# Altium footprint library Sangjian_Pcb.PcbLib: 434 footprints (part 25 of 28)
Each footprint in its own frame and in the unit in brackets; x right, y up, seen from the top. Pads: shape width x height; smd on the part's side, far side on the other; paste and mask are expansions set on the pad; w line width, h text height; cw(c..) or ccw(c..) is an arc to the next point about the centre after c.
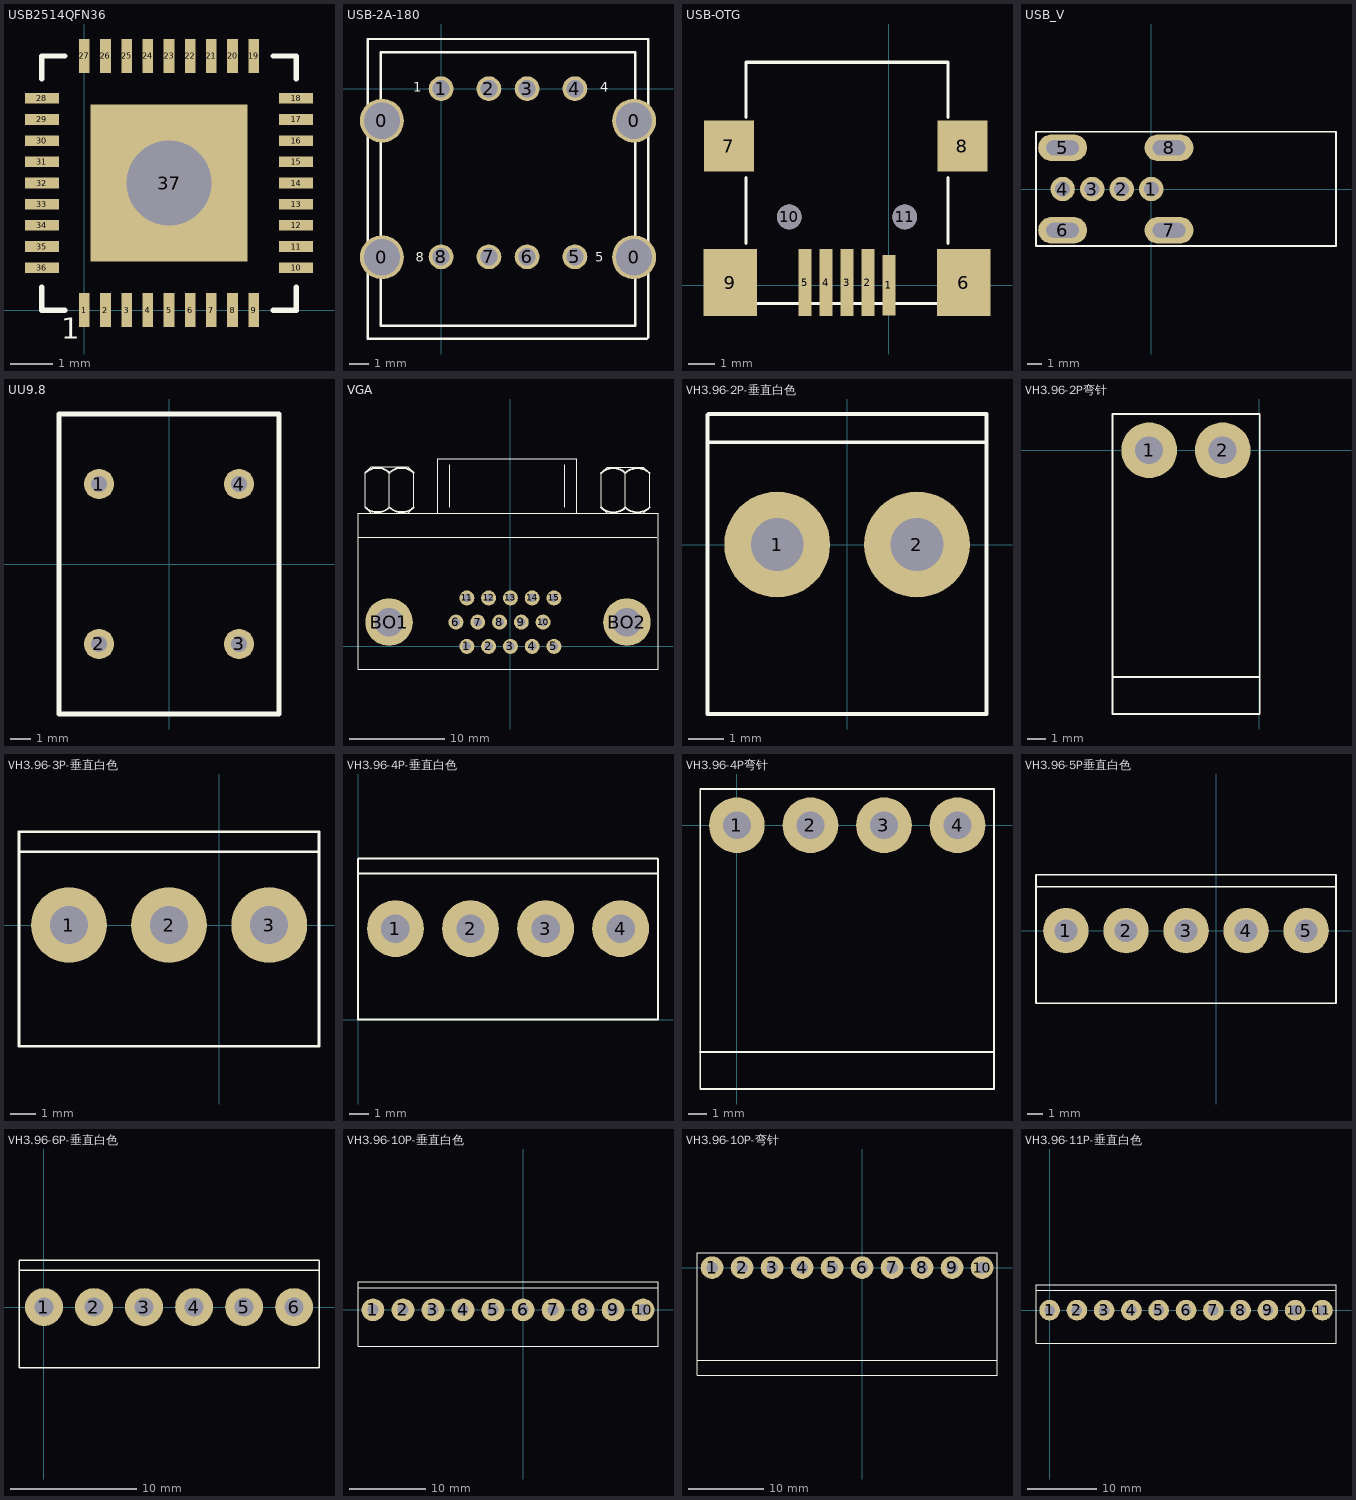
[diagram p24: the footprints below, top view; thin cyan lines are the x and y axes]

## USB2514QFN36 [mm]
pads (37):
  rect 0.25x0.8 smd: 1(0,0) 2(0.5,0) 3(1,0) 4(1.5,0) 5(2,0) 6(2.5,0) 7(3,0) 8(3.5,0) 9(4,0) 19(4,6) 20(3.5,6) 21(3,6) 22(2.5,6) 23(2,6) 24(1.5,6) 25(1,6) 26(0.5,6) 27(0,6)
  rect 0.8x0.25 smd: 10(5,1) 11(5,1.5) 12(5,2) 13(5,2.5) 14(5,3) 15(5,3.5) 16(5,4) 17(5,4.5) 18(5,5) 28(-1,5) 29(-1,4.5) 30(-1,4) 31(-1,3.5) 32(-1,3) 33(-1,2.5) 34(-1,2) 35(-1,1.5) 36(-1,1)
  rect 3.7x3.7 hole 2: 37(2,3)
Top Overlay:
  lines w0.127: -1,0.539 -1,0 -0.461,0 ; -1,5.461 -1,6 -0.461,6 ; 4.461,0 5,0 5,0.539 ; 4.461,6 5,6 5,5.461
  text "1" at -0.54,-0.683 h0.5

## USB-2A-180 [mm]
pads (12):
  round 2.3 hole 1.9: 0(-3.1,-8.825) 0(-3.1,-1.675) 0(10.1,-8.825) 0(10.1,-1.675)
  round 1.3 hole 0.9: 1(0,0) 2(2.5,0) 3(4.5,0) 4(7,0) 5(7,-8.8) 6(4.5,-8.8) 7(2.5,-8.8) 8(0,-8.8)
Top Overlay:
  lines w0.127: -3.15,-13.1 10.15,-13.1 10.757,-13.1 10.85,-13.007 10.85,-12.4 10.85,1.9 10.85,2.586 10.836,2.6 10.15,2.6 -3.85,2.6 -3.85,-13.102 -3.848,-13.1 -3.104,-13.1 ; -3.15,-12.4 10.15,-12.4 10.15,1.9 -3.15,1.9 -3.15,-12.4
  text "8" at -1.326,-9.054 h0.5
  text "5" at 8.072,-9.054 h0.5
  text "4" at 8.326,-0.164 h0.5
  text "1" at -1.453,-0.164 h0.5

## USB-OTG [mm]
pads (11):
  rect 0.508x2.3 smd: 1(0,0)
  rect 0.508x2.54 smd: 2(-0.8,0.1) 3(-1.6,0.1) 4(-2.4,0.1) 5(-3.2,0.1)
  rect 2.032x2.54 smd: 6(2.845,0.1) 9(-6.045,0.1)
  rect 1.9x1.95 smd: 7(-6.1,5.3) 8(2.8,5.3)
  round 0.94 hole 0.94 unplated: 10(-3.8,2.6) 11(0.6,2.6)
Top Overlay:
  lines w0.127: -5.45,1.6 -5.45,4.1 ; -5.45,6.4 -5.45,8.5 2.25,8.5 2.25,6.4 ; -5.4,-0.7 2.2,-0.7 ; 2.25,1.6 2.25,4.1

## USB_V [mil]
pads (8):
  round 65 hole 40: 1(0,0) 2(-78.74,0) 3(-157.48,0) 4(-236.22,0)
  oval 130x70.87 hole 39.37 slot 86.61 at 0 deg: 5(-236.22,110) 6(-236.22,-110) 7(47.24,-110) 8(47.24,110)
Top Overlay:
  lines w5: -307.09,-151.57 492.13,-151.57 492.13,152.56 -307.09,152.56 -307.09,-151.57

## UU9.8 [mm]
pads (4):
  round 1.524 hole 0.8: 1(-3.5,4) 2(-3.5,-4) 3(3.5,-4) 4(3.5,4)
Top Overlay:
  lines w0.254: -5.5,-7.5 -5.5,7.5 5.5,7.5 5.5,-7.5 -5.5,-7.5

## VGA [mil]
pads (17):
  round 62 hole 35: 1(-180,0) 2(-90,0) 3(0,0) 4(90,0) 5(180,0) 6(-225,100) 8(-45,100) 9(45,100) 10(135,100) 11(-180,200) 12(-90,200) 13(0,200) 14(90,200) 15(180,200)
  oval 60x62 hole 35: 7(-135,100)
  round 196.67 hole 118.33: BO1(-501.67,100) BO2(481.67,100)
Top Overlay:
  lines w5: -628.33,450.83 605,450.83 ; -574.91,550.09 -599.91,575.09 -599.91,716.75 -574.91,741.75 -424.91,741.75 -399.91,716.75 -399.91,575.09 -424.91,550.09 ; -499.91,575.09 -499.91,716.75 ; -300,550 -300,775 275,775 275,550 ; -250,575 -250,750 ; 225,575 225,750 ; 400,549.17 375,574.17 375,715.83 400,740.83 550,740.83 575,715.83 575,574.17 550,549.17 ; 475,574.17 475,715.83 ; -630,-94.37 610,-94.37 610,550 -630,550 -630,-94.37
  lines w8: -600,575 ccw(c-549.91,625.09) -499.83,575 ; -600,716.84 cw(c-549.91,666.75) -499.83,716.84 ; -500,575 ccw(c-449.91,625.09) -399.83,575 ; -500,716.84 cw(c-449.91,666.75) -399.83,716.84 ; 374.91,574.08 ccw(c425,624.17) 475.09,574.08 ; 374.91,715.92 cw(c425,665.83) 475.09,715.92 ; 474.91,574.08 ccw(c525,624.17) 575.09,574.08 ; 474.91,715.92 cw(c525,665.83) 575.09,715.92

## VH3.96-2P-垂直白色 [mm]
pads (2):
  round 3 hole 1.5: 1(-1.98,0) 2(1.98,0)
Top Overlay:
  lines w0.1: -3.955,-4.8 -3.955,3.684 ; -3.955,2.896 3.949,2.896 ; -3.93,-4.8 3.949,-4.8 3.949,3.684 ; -3.93,3.7 3.949,3.7

## VH3.96-2P弯针 [mm]
pads (2):
  round 3 hole 1.5: 1(-5.94,0) 2(-1.98,0)
Top Overlay:
  lines w0.1: -7.93,-12.211 0.02,-12.211 ; -7.915,-14.2 -7.915,1.955 0.02,1.955 0.02,-14.2 -7.89,-14.2

## VH3.96-3P-垂直白色 [mm]
pads (3):
  round 3 hole 1.5: 1(-5.94,0) 2(-1.98,0) 3(1.98,0)
Top Overlay:
  lines w0.1: -7.915,-4.8 -7.915,3.684 ; -7.915,2.896 3.949,2.896 ; -7.89,-4.8 3.949,-4.8 3.949,3.684 ; -7.89,3.7 3.949,3.7

## VH3.96-4P-垂直白色 [mm]
pads (4):
  round 3 hole 1.5: 1(1.95,4.8) 2(5.91,4.8) 3(9.87,4.8) 4(13.83,4.8)
Top Overlay:
  lines w0.1: -0.025,0 -0.025,8.484 ; -0.025,7.696 15.773,7.696 ; 0,0 15.78,0 ; 0,8.5 15.78,8.5 ; 15.799,0 15.799,8.484

## VH3.96-4P弯针 [mm]
pads (4):
  round 3 hole 1.5: 1(-0.006,0) 2(3.954,0) 3(7.914,0) 4(11.874,0)
Top Overlay:
  lines w0.1: -1.995,-12.211 13.785,-12.211 ; -1.981,-14.2 -1.981,1.955 13.843,1.955 13.843,-14.2 ; -1.956,-14.2 13.824,-14.2

## VH3.96-5P垂直白色 [mm]
pads (5):
  round 3 hole 1.5: 1(-9.9,0) 2(-5.94,0) 3(-1.98,0) 4(1.98,0) 5(5.94,0)
Top Overlay:
  lines w0.1: -11.875,-4.8 -11.875,3.684 ; -11.875,2.896 7.909,2.896 ; -11.85,-4.8 7.909,-4.8 7.909,3.684 ; -11.85,3.7 7.909,3.7

## VH3.96-6P-垂直白色 [mm]
pads (6):
  round 3 hole 1.5: 1(0,0) 2(3.96,0) 3(7.92,0) 4(11.88,0) 5(15.84,0) 6(19.8,0)
Top Overlay:
  lines w0.1: -1.975,-4.8 -1.975,3.684 ; -1.975,2.896 21.769,2.896 ; -1.95,-4.8 21.769,-4.8 21.769,3.684 ; -1.95,3.7 21.769,3.7

## VH3.96-10P-垂直白色 [mm]
pads (10):
  round 3 hole 1.5: 1(-19.8,0) 2(-15.84,0) 3(-11.88,0) 4(-7.92,0) 5(-3.96,0) 6(0,0) 7(3.96,0) 8(7.92,0) 9(11.88,0) 10(15.84,0)
Top Overlay:
  lines w0.1: -21.775,-4.8 -21.775,3.684 ; -21.775,2.896 17.809,2.896 ; -21.75,-4.8 17.809,-4.8 17.809,3.684 ; -21.75,3.7 17.809,3.7

## VH3.96-10P-弯针 [mm]
pads (10):
  round 3 hole 1.5: 1(-19.8,0) 2(-15.84,0) 3(-11.88,0) 4(-7.92,0) 5(-3.96,0) 6(0,0) 7(3.96,0) 8(7.92,0) 9(11.88,0) 10(15.84,0)
Top Overlay:
  lines w0.1: -21.79,-12.211 17.809,-12.211 ; -21.775,-14.2 -21.775,1.955 17.809,1.955 17.809,-14.2 -21.75,-14.2

## VH3.96-11P-垂直白色 [mm]
pads (11):
  round 3 hole 1.5: 1(0,0) 2(3.96,0) 3(7.92,0) 4(11.88,0) 5(15.84,0) 6(19.8,0) 7(23.76,0) 8(27.72,0) 9(31.68,0) 10(35.64,0) 11(39.6,0)
Top Overlay:
  lines w0.1: -1.975,-4.8 -1.975,3.684 ; -1.975,2.896 41.569,2.896 ; -1.95,-4.8 41.569,-4.8 41.569,3.684 ; -1.95,3.7 41.569,3.7